# Altium integrated library Sensor temperatura.IntLib: 1 symbol
Pins are listed as number, name and electrical type; pins without a type are passive.

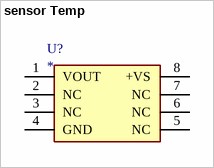
[diagram p0: symbol sensor Temp]

## sensor Temp
designator U?
footprint SOIC127P600X175-8N
pins: 1 VOUT, 2 NC, 3 NC, 4 GND, 5 NC, 6 NC, 7 NC, 8 +VS